# Altium footprint library IC COMPARATOR LV 6-UDFN.PcbLib: 3 footprints
Each footprint in its own frame and in the unit in brackets; x right, y up, seen from the top. Pads: shape width x height; smd on the part's side, far side on the other; paste and mask are expansions set on the pad; w line width, h text height; cw(c..) or ccw(c..) is an arc to the next point about the centre after c.
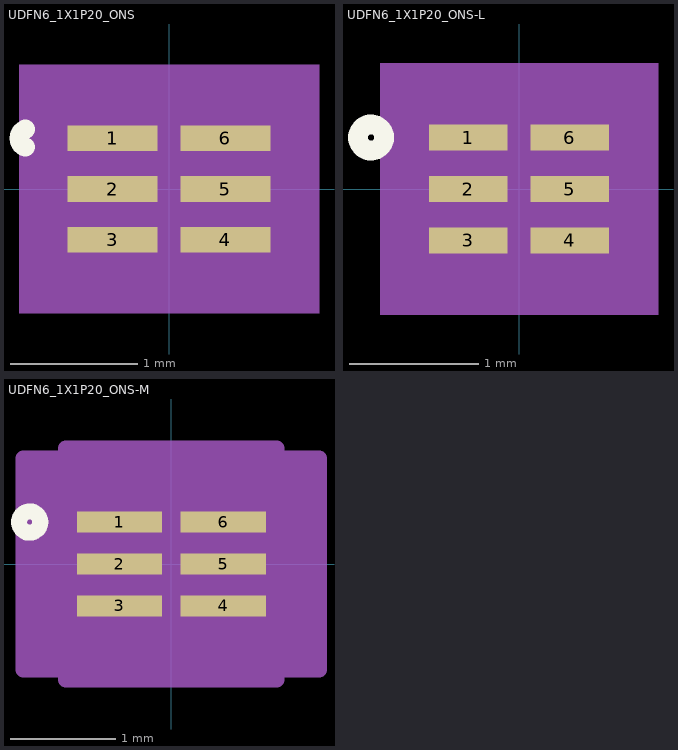
[diagram p0: the footprints below, top view; thin cyan lines are the x and y axes]

## UDFN6_1X1P20_ONS [mil]
pads (6):
  rect 28x8 smd paste+0 mask+0: 1(-17.5,15.75) 2(-17.5,0) 3(-17.5,-15.75) 4(17.5,-15.75) 5(17.5,0) 6(17.5,15.75)
Top Overlay:
  lines w6: -44.6,13.01 cw(c-43.37,15.75) -44.6,18.49
Mechanical 5:
  region: 46.5,-38.5 -46.5,-38.5 -46.5,38.5 46.5,38.5
Mechanical 13:
  circle w6: c-3.5,15.75 r0
  lines w0: -12,23.5 ccw(c0,23.5) 12,23.5
  lines w1: -19.5,-23.5 19.5,-23.5 19.5,23.5 -19.5,23.5 -19.5,-23.5
Mechanical 15:
  region: -29.5,-29.75 -41.5,-29.75 -41.5,29.75 -29.5,29.75 -29.5,33.5 29.5,33.5 29.5,29.75 41.5,29.75 41.5,-29.75 29.5,-29.75 29.5,-33.5 -29.5,-33.5
  lines w6: -41.5,-29.75 -41.5,29.75 -29.5,29.75 -29.5,33.5 29.5,33.5 29.5,29.75 41.5,29.75 41.5,-29.75 29.5,-29.75 29.5,-33.5 -29.5,-33.5 -29.5,-29.75 -41.5,-29.75
3D body "UDFN6_1X1P20_ONS.step": height 22.09, standoff 0, extent -19.49,-23.5 19.49,23.5

## UDFN6_1X1P20_ONS-L [mil]
pads (6):
  rect 24x8 smd paste+0 mask+0: 1(-15.5,15.75) 2(-15.5,0) 3(-15.5,-15.75) 4(15.5,-15.75) 5(15.5,0) 6(15.5,15.75)
Top Overlay:
  circle w6: c-45.25,15.75 r4
Mechanical 5:
  region: 42.5,-38.5 -42.5,-38.5 -42.5,38.5 42.5,38.5
Mechanical 13:
  circle w0: c-3.5,15.75 r3
  lines w0: -12,23.5 ccw(c0,23.5) 12,23.5
  lines w1: -19.5,-23.5 19.5,-23.5 19.5,23.5 -19.5,23.5 -19.5,-23.5
Mechanical 15:
  region: -23.5,-23.75 -31.5,-23.75 -31.5,23.75 -23.5,23.75 -23.5,27.5 23.5,27.5 23.5,23.75 31.5,23.75 31.5,-23.75 23.5,-23.75 23.5,-27.5 -23.5,-27.5
  lines w6: -31.5,-23.75 -31.5,23.75 -23.5,23.75 -23.5,27.5 23.5,27.5 23.5,23.75 31.5,23.75 31.5,-23.75 23.5,-23.75 23.5,-27.5 -23.5,-27.5 -23.5,-23.75 -31.5,-23.75
3D body "UDFN6_1X1P20_ONS.step": height 22.09, standoff 0, extent -19.49,-23.5 19.49,23.5

## UDFN6_1X1P20_ONS-M [mil]
pads (6):
  rect 32x8 smd paste+0 mask+0: 1(-19.5,15.75) 2(-19.5,0) 3(-19.5,-15.75) 4(19.5,-15.75) 5(19.5,0) 6(19.5,15.75)
Top Overlay:
  circle w6: c-53.25,15.75 r4
Mechanical 5:
  region: 50.5,-38.5 -50.5,-38.5 -50.5,38.5 50.5,38.5
Mechanical 13:
  circle w0: c-3.5,15.75 r3
  lines w0: -12,23.5 ccw(c0,23.5) 12,23.5
  lines w1: -19.5,-23.5 19.5,-23.5 19.5,23.5 -19.5,23.5 -19.5,-23.5
Mechanical 15:
  region: -39.5,-39.75 -55.5,-39.75 -55.5,39.75 -39.5,39.75 -39.5,43.5 39.5,43.5 39.5,39.75 55.5,39.75 55.5,-39.75 39.5,-39.75 39.5,-43.5 -39.5,-43.5
  lines w6: -55.5,-39.75 -55.5,39.75 -39.5,39.75 -39.5,43.5 39.5,43.5 39.5,39.75 55.5,39.75 55.5,-39.75 39.5,-39.75 39.5,-43.5 -39.5,-43.5 -39.5,-39.75 -55.5,-39.75
3D body "UDFN6_1X1P20_ONS.step": height 22.09, standoff 0, extent -19.49,-23.5 19.49,23.5